# Altium schematic symbol library PiVO_shield.SCHLIB: 17 symbols
Pins are listed as number, name and electrical type; pins without a type are passive.

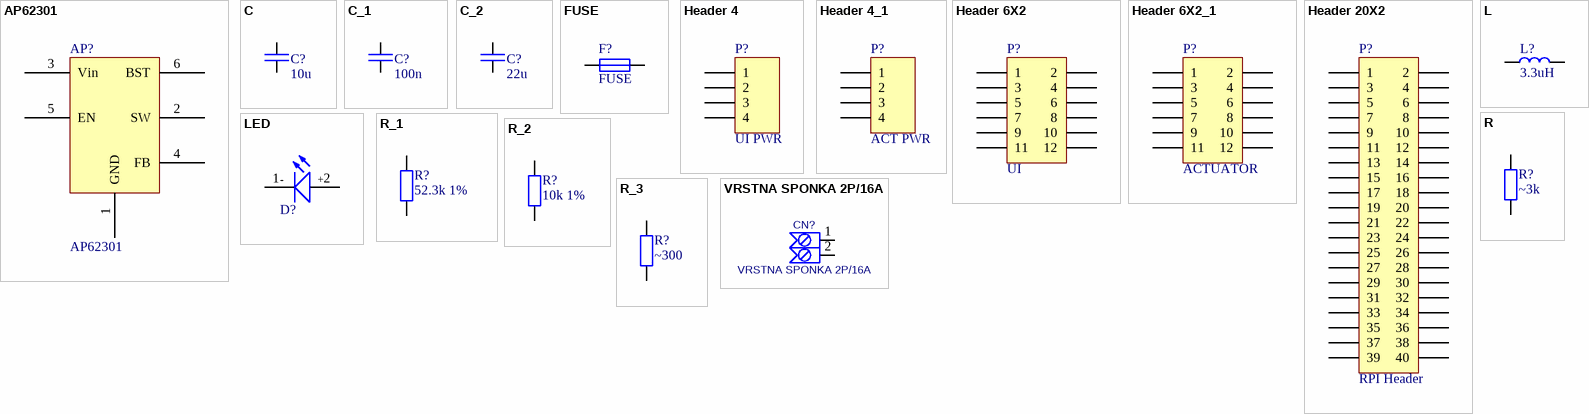
[diagram p0: symbols AP62301 to VRSTNA SPONKA 2P/16A]

## AP62301
designator AP?
footprint SOT95P280X100-6L (SOT23, 6-Leads, Body 2.90x2.80mm, Pitch 0.95mm, IPC High Density)
pins: 1 GND, 2 SW, 3 Vin, 4 FB, 5 EN, 6 BST

## C
designator C?, comment 10u
Capacitor
footprint C square R15 (600mil)
footprint C Square R5.08 (200mil)
footprint C ceramic F5mm
footprint C1608_0603I_L (Chip Capacitor, 2-Leads, Body 1.57x0.85mm, IPC High Density)
footprint C1608_0603I_M (Chip Capacitor, 2-Leads, Body 1.57x0.85mm, IPC Low Density)
footprint C1608_0603I_N (Chip Capacitor, 2-Leads, Body 1.57x0.85mm, IPC Medium Density)
footprint C1608_0603I_N-equidistant (Chip Capacitor, 2-Leads, Body 1.57x0.85mm, IPC Medium Density)
footprint C2012_0805I_L (Chip Capacitor, 2-Leads, Body 2.05x1.25mm, IPC High Density)
footprint C2012_0805I_M (Chip Capacitor, 2-Leads, Body 2.05x1.25mm, IPC Low Density)
footprint C2012_0805I_N (Chip Capacitor, 2-Leads, Body 2.05x1.25mm, IPC Medium Density)
footprint C3216_1206I_L (Chip Capacitor, 2-Leads, Body 3.20x1.60mm, IPC High Density)
footprint C3216_1206I_M (Chip Capacitor, 2-Leads, Body 3.20x1.60mm, IPC Low Density)
footprint C3216_1206I_N (Chip Capacitor, 2-Leads, Body 3.20x1.60mm, IPC Medium Density)
footprint C3225_1210I_L (Chip Capacitor, 2-Leads, Body 3.20x2.50mm, IPC High Density)
footprint C3225_1210I_M (Chip Capacitor, 2-Leads, Body 3.20x2.50mm, IPC Low Density)
footprint C3225_1210I_N (Chip Capacitor, 2-Leads, Body 3.20x2.50mm, IPC Medium Density)
pins: 1, 2

## C_1
designator C?, comment 100n
Capacitor
footprint C square R15 (600mil)
footprint C Square R5.08 (200mil)
footprint C ceramic F5mm
footprint C1608_0603I_L (Chip Capacitor, 2-Leads, Body 1.57x0.85mm, IPC High Density)
footprint C1608_0603I_M (Chip Capacitor, 2-Leads, Body 1.57x0.85mm, IPC Low Density)
footprint C1608_0603I_N (Chip Capacitor, 2-Leads, Body 1.57x0.85mm, IPC Medium Density)
footprint C1608_0603I_N-equidistant (Chip Capacitor, 2-Leads, Body 1.57x0.85mm, IPC Medium Density)
footprint C2012_0805I_L (Chip Capacitor, 2-Leads, Body 2.05x1.25mm, IPC High Density)
footprint C2012_0805I_M (Chip Capacitor, 2-Leads, Body 2.05x1.25mm, IPC Low Density)
footprint C2012_0805I_N (Chip Capacitor, 2-Leads, Body 2.05x1.25mm, IPC Medium Density)
footprint C3216_1206I_L (Chip Capacitor, 2-Leads, Body 3.20x1.60mm, IPC High Density)
footprint C3216_1206I_M (Chip Capacitor, 2-Leads, Body 3.20x1.60mm, IPC Low Density)
footprint C3216_1206I_N (Chip Capacitor, 2-Leads, Body 3.20x1.60mm, IPC Medium Density)
footprint C3225_1210I_L (Chip Capacitor, 2-Leads, Body 3.20x2.50mm, IPC High Density)
footprint C3225_1210I_M (Chip Capacitor, 2-Leads, Body 3.20x2.50mm, IPC Low Density)
footprint C3225_1210I_N (Chip Capacitor, 2-Leads, Body 3.20x2.50mm, IPC Medium Density)
pins: 1, 2

## C_2
designator C?, comment 22u
Capacitor
footprint C square R15 (600mil)
footprint C Square R5.08 (200mil)
footprint C ceramic F5mm
footprint C1608_0603I_L (Chip Capacitor, 2-Leads, Body 1.57x0.85mm, IPC High Density)
footprint C1608_0603I_M (Chip Capacitor, 2-Leads, Body 1.57x0.85mm, IPC Low Density)
footprint C1608_0603I_N (Chip Capacitor, 2-Leads, Body 1.57x0.85mm, IPC Medium Density)
footprint C1608_0603I_N-equidistant (Chip Capacitor, 2-Leads, Body 1.57x0.85mm, IPC Medium Density)
footprint C2012_0805I_L (Chip Capacitor, 2-Leads, Body 2.05x1.25mm, IPC High Density)
footprint C2012_0805I_M (Chip Capacitor, 2-Leads, Body 2.05x1.25mm, IPC Low Density)
footprint C2012_0805I_N (Chip Capacitor, 2-Leads, Body 2.05x1.25mm, IPC Medium Density)
footprint C3216_1206I_L (Chip Capacitor, 2-Leads, Body 3.20x1.60mm, IPC High Density)
footprint C3216_1206I_M (Chip Capacitor, 2-Leads, Body 3.20x1.60mm, IPC Low Density)
footprint C3216_1206I_N (Chip Capacitor, 2-Leads, Body 3.20x1.60mm, IPC Medium Density)
footprint C3225_1210I_L (Chip Capacitor, 2-Leads, Body 3.20x2.50mm, IPC High Density)
footprint C3225_1210I_M (Chip Capacitor, 2-Leads, Body 3.20x2.50mm, IPC Low Density)
footprint C3225_1210I_N (Chip Capacitor, 2-Leads, Body 3.20x2.50mm, IPC Medium Density)
pins: 1, 2

## FUSE
designator F?
footprint R1005_0402i_L (Resistor, Chip; 1.00 mm L X 0.50 mm W X 0.40 mm H body)
footprint R1005_0402i_M (Resistor, Chip; 1.00 mm L X 0.50 mm W X 0.40 mm H body)
footprint R1005_0402I_N (Resistor, Chip; 1.00 mm L X 0.50 mm W X 0.40 mm H body)
footprint R1608_0603I_L (Chip Resistor, 2-Leads, Body 1.57x0.85mm, IPC High Density)
footprint R1608_0603I_M (Chip Resistor, 2-Leads, Body 1.57x0.85mm, IPC Low Density)
footprint R1608_0603I_N (Chip Resistor, 2-Leads, Body 1.57x0.85mm, IPC Medium Density)
footprint R1608_0603I_N-equidistant (Chip Resistor, 2-Leads, Body 1.57x0.85mm, IPC Medium Density)
footprint R2012_0805I_L (Chip Resistor, 2-Leads, Body 2.05x1.25mm, IPC High Density)
footprint R2012_0805I_M (Chip Resistor, 2-Leads, Body 2.05x1.25mm, IPC Low Density)
footprint R2012_0805I_N (Chip Resistor, 2-Leads, Body 2.05x1.25mm, IPC Medium Density)
footprint R3216_1206I_L (Chip Resistor, 2-Leads, Body 3.15x1.60mm, IPC High Density)
footprint R3216_1206I_M (Chip Resistor, 2-Leads, Body 3.15x1.60mm, IPC Low Density)
footprint R3216_1206I_N (Chip Resistor, 2-Leads, Body 3.15x1.60mm, IPC Medium Density)
footprint R6432_2512I_L (Resistor, Chip; 6.40 mm L X 3.20 mm W X 0.75 mm H body)
footprint R6432_2512I_M (Resistor, Chip; 6.40 mm L X 3.20 mm W X 0.75 mm H body)
footprint R6432_2512I_N (Resistor, Chip; 6.40 mm L X 3.20 mm W X 0.75 mm H body)
pins: 1, 2

## Header 4
designator P?, comment UI PWR
Header, 4-Pin; LatestRevisionDate: 17-Jul-2002; LatestRevisionNote: Re-released for DXP Platform.; Publisher: Altium Limited
footprint HDR1X4 (Connector; Header; 4 Position)
signal-integrity model Connector
pins: 1, 2, 3, 4

## Header 4_1
designator P?, comment ACT PWR
Header, 4-Pin; LatestRevisionDate: 17-Jul-2002; LatestRevisionNote: Re-released for DXP Platform.; Publisher: Altium Limited
footprint HDR1X4 (Connector; Header; 4 Position)
signal-integrity model Connector
pins: 1, 2, 3, 4

## Header 6X2
designator P?, comment UI
Header, 6-Pin, Dual row; LatestRevisionDate: 17-Jul-2002; LatestRevisionNote: Re-released for DXP Platform.; Publisher: Altium Limited
footprint HDR2X6 (Connector; Header; 6x2 Position)
signal-integrity model Connector
footprint 1.27mm headet tht
pins: 1, 2, 3, 4, 5, 6, 7, 8, 9, 10, 11, 12

## Header 6X2_1
designator P?, comment ACTUATOR
Header, 6-Pin, Dual row; LatestRevisionDate: 17-Jul-2002; LatestRevisionNote: Re-released for DXP Platform.; Publisher: Altium Limited
footprint HDR2X6 (Connector; Header; 6x2 Position)
signal-integrity model Connector
footprint 1.27mm headet tht
pins: 1, 2, 3, 4, 5, 6, 7, 8, 9, 10, 11, 12

## Header 20X2
designator P?, comment RPI Header
Header, 20-Pin, Dual row; LatestRevisionDate: 17-Jul-2002; LatestRevisionNote: Re-released for DXP Platform.; Publisher: Altium Limited
footprint HDR2X20 (Connector; Header; 20x2 Position)
signal-integrity model Connector
pins: 1, 2, 3, 4, 5, 6, 7, 8, 9, 10, 11, 12, 13, 14, 15, 16, 17, 18, 19, 20, 21, 22, 23, 24, 25, 26, 27, 28, 29, 30, 31, 32, 33, 34, 35, 36, 37, 38, 39, 40

## L
designator L?, comment 3.3uH
L
footprint R400
footprint L_10.4X10.4
footprint L_Radial_5.0_1.0_3D_FI11.5_H14
footprint L_Radial_7.5_1.2_2D_FI16
footprint L_RADIAL_5.0_8.5x11.0
footprint L_RADIAL_7.2_13.7x15.9
footprint MSS1278 (Precision Wire Wound Inductor, 2-Leads, Body 12,15x12,15mm, IPC Medium Density)
footprint MSS1278-enlarged pads (Precision Wire Wound Inductor, 2-Leads, Body 12,15x12,15mm, IPC NONE - Medium->Enlarged pads)
footprint L-Coilcraft-DR0608
footprint L Murata 1400 F23.8mm 27x14
footprint L100100X48_N (Precision Wire Wound Inductor, 2-Leads, Body 10.00x10.00mm, IPC Medium Density)
footprint L4040_1616I_L (Inductor, Chip; 4.00 mm L X 4.00 mm W X 2.50 mm H body)
footprint L4040_1616I_M (Inductor, Chip; 4.00 mm L X 4.00 mm W X 2.50 mm H body)
footprint L4040_1616I_N (Inductor, Chip; 4.00 mm L X 4.00 mm W X 2.50 mm H body)
footprint L5050_2020I (Precision Wire Wound Inductor, 2-Leads, Body 5,00x5,00mm, IPC Medium Density)
footprint L6060_2424I_L (Inductor, Chip; 6.00 mm L X 6.00 mm W X 2.80 mm H body)
footprint L6060_2424I_M (Inductor, Chip; 6.00 mm L X 6.00 mm W X 2.80 mm H body)
footprint L6060_2424I_N (Inductor, Chip; 6.00 mm L X 6.00 mm W X 2.80 mm H body)
footprint L7070_2523I
footprint L8080X40_N (Precision Wire Wound Inductor, 2-Leads, Body 8.00x8.00x4.00mm, IPC Medium Density)
footprint L3030X10N (Precision Wire Wound Inductor, 2-Leads, Body 3.00x3.00mm, IPC Medium Density)
footprint R1608_0603I_L (Chip Resistor, 2-Leads, Body 1.57x0.85mm, IPC High Density)
footprint R1608_0603I_M (Chip Resistor, 2-Leads, Body 1.57x0.85mm, IPC Low Density)
footprint R1608_0603I_N (Chip Resistor, 2-Leads, Body 1.57x0.85mm, IPC Medium Density)
footprint R1608_0603I_N-equidistant (Chip Resistor, 2-Leads, Body 1.57x0.85mm, IPC Medium Density)
footprint R2012_0805I_L (Chip Resistor, 2-Leads, Body 2.05x1.25mm, IPC High Density)
footprint R2012_0805I_M (Chip Resistor, 2-Leads, Body 2.05x1.25mm, IPC Low Density)
footprint R2012_0805I_N (Chip Resistor, 2-Leads, Body 2.05x1.25mm, IPC Medium Density)
footprint R3216_1206I_L (Chip Resistor, 2-Leads, Body 3.15x1.60mm, IPC High Density)
footprint R3216_1206I_M (Chip Resistor, 2-Leads, Body 3.15x1.60mm, IPC Low Density)
footprint R3216_1206I_N (Chip Resistor, 2-Leads, Body 3.15x1.60mm, IPC Medium Density)
footprint R6432_2512I_L (Resistor, Chip; 6.40 mm L X 3.20 mm W X 0.75 mm H body)
footprint R6432_2512I_M (Resistor, Chip; 6.40 mm L X 3.20 mm W X 0.75 mm H body)
footprint R6432_2512I_N (Resistor, Chip; 6.40 mm L X 3.20 mm W X 0.75 mm H body)
footprint INDUCTOR
footprint INDUCTOR_2
pins: 1, 2

## LED
designator D?  (value not drawn)
footprint LED2012_0805I_N (SMD LED, 2-Leads, Body 2.05x1.25mm, IPC Medium Density)
footprint LED1608_0603I_L (SMD LED, 2-Leads, Body 1.57x0.85mm, IPC High Density)
footprint LED1608_0603I_M (SMD LED, 2-Leads, Body 1.57x0.85mm, IPC Low Density)
footprint LED1608_0603I_N (SMD LED, 2-Leads, Body 1.57x0.85mm, IPC Medium Density)
footprint LED1608_0603I_N-equidistant (SMD LED, 2-Leads, Body 1.57x0.85mm, IPC Medium Density)
footprint LED2012_0805I_L (SMD LED, 2-Leads, Body 2.05x1.25mm, IPC High Density)
footprint LED2012_0805I_M (SMD LED, 2-Leads, Body 2.05x1.25mm, IPC Low Density)
footprint LED3216_1206I_L (SMD LED, 2-Leads, Body 3.15x1.60mm, IPC High Density)
footprint LED3216_1206I_M (SMD LED, 2-Leads, Body 3.15x1.60mm, IPC Low Density)
footprint LED3216_1206I_N (SMD LED, 2-Leads, Body 3.15x1.60mm, IPC Medium Density)
pins: 1 -, 2 +
7 alternate drawings of the same symbol

## R
designator R?, comment ~3k
R
footprint R400
footprint R300
footprint R500
footprint LDR
footprint R_Ax_L1550_D500 (Resistor, Axial; 20.60 mm C X 0.80 mm W 15.50 mm L X 5.00 mm Dia body)
footprint R2012_0805I_N (Chip Resistor, 2-Leads, Body 2.05x1.25mm, IPC Medium Density)
footprint R1005_0402i_L (Resistor, Chip; 1.00 mm L X 0.50 mm W X 0.40 mm H body)
footprint R1005_0402i_M (Resistor, Chip; 1.00 mm L X 0.50 mm W X 0.40 mm H body)
footprint R1608_0603I_L (Chip Resistor, 2-Leads, Body 1.57x0.85mm, IPC High Density)
footprint R1608_0603I_M (Chip Resistor, 2-Leads, Body 1.57x0.85mm, IPC Low Density)
footprint R1608_0603I_N (Chip Resistor, 2-Leads, Body 1.57x0.85mm, IPC Medium Density)
footprint R1608_0603I_N-equidistant (Chip Resistor, 2-Leads, Body 1.57x0.85mm, IPC Medium Density)
footprint R1005_0402I_N (Resistor, Chip; 1.00 mm L X 0.50 mm W X 0.40 mm H body)
footprint R2012_0805I_L (Chip Resistor, 2-Leads, Body 2.05x1.25mm, IPC High Density)
footprint R2012_0805I_M (Chip Resistor, 2-Leads, Body 2.05x1.25mm, IPC Low Density)
footprint R3216_1206I_L (Chip Resistor, 2-Leads, Body 3.15x1.60mm, IPC High Density)
footprint R3216_1206I_N (Chip Resistor, 2-Leads, Body 3.15x1.60mm, IPC Medium Density)
footprint R6432_2512I_L (Resistor, Chip; 6.40 mm L X 3.20 mm W X 0.75 mm H body)
footprint R3216_1206I_M (Chip Resistor, 2-Leads, Body 3.15x1.60mm, IPC Low Density)
footprint R6432_2512I_N (Resistor, Chip; 6.40 mm L X 3.20 mm W X 0.75 mm H body)
footprint R6432_2512I_M (Resistor, Chip; 6.40 mm L X 3.20 mm W X 0.75 mm H body)
pins: 1, 2

## R_1
designator R?, comment 52.3k 1%
R
footprint R400
footprint R300
footprint R500
footprint LDR
footprint R_Ax_L1550_D500 (Resistor, Axial; 20.60 mm C X 0.80 mm W 15.50 mm L X 5.00 mm Dia body)
footprint R2012_0805I_N (Chip Resistor, 2-Leads, Body 2.05x1.25mm, IPC Medium Density)
footprint R1005_0402i_L (Resistor, Chip; 1.00 mm L X 0.50 mm W X 0.40 mm H body)
footprint R1005_0402i_M (Resistor, Chip; 1.00 mm L X 0.50 mm W X 0.40 mm H body)
footprint R1608_0603I_L (Chip Resistor, 2-Leads, Body 1.57x0.85mm, IPC High Density)
footprint R1608_0603I_M (Chip Resistor, 2-Leads, Body 1.57x0.85mm, IPC Low Density)
footprint R1608_0603I_N (Chip Resistor, 2-Leads, Body 1.57x0.85mm, IPC Medium Density)
footprint R1608_0603I_N-equidistant (Chip Resistor, 2-Leads, Body 1.57x0.85mm, IPC Medium Density)
footprint R1005_0402I_N (Resistor, Chip; 1.00 mm L X 0.50 mm W X 0.40 mm H body)
footprint R2012_0805I_L (Chip Resistor, 2-Leads, Body 2.05x1.25mm, IPC High Density)
footprint R2012_0805I_M (Chip Resistor, 2-Leads, Body 2.05x1.25mm, IPC Low Density)
footprint R3216_1206I_L (Chip Resistor, 2-Leads, Body 3.15x1.60mm, IPC High Density)
footprint R3216_1206I_N (Chip Resistor, 2-Leads, Body 3.15x1.60mm, IPC Medium Density)
footprint R6432_2512I_L (Resistor, Chip; 6.40 mm L X 3.20 mm W X 0.75 mm H body)
footprint R3216_1206I_M (Chip Resistor, 2-Leads, Body 3.15x1.60mm, IPC Low Density)
footprint R6432_2512I_N (Resistor, Chip; 6.40 mm L X 3.20 mm W X 0.75 mm H body)
footprint R6432_2512I_M (Resistor, Chip; 6.40 mm L X 3.20 mm W X 0.75 mm H body)
pins: 1, 2

## R_2
designator R?, comment 10k 1%
R
footprint R400
footprint R300
footprint R500
footprint LDR
footprint R_Ax_L1550_D500 (Resistor, Axial; 20.60 mm C X 0.80 mm W 15.50 mm L X 5.00 mm Dia body)
footprint R2012_0805I_N (Chip Resistor, 2-Leads, Body 2.05x1.25mm, IPC Medium Density)
footprint R1005_0402i_L (Resistor, Chip; 1.00 mm L X 0.50 mm W X 0.40 mm H body)
footprint R1005_0402i_M (Resistor, Chip; 1.00 mm L X 0.50 mm W X 0.40 mm H body)
footprint R1608_0603I_L (Chip Resistor, 2-Leads, Body 1.57x0.85mm, IPC High Density)
footprint R1608_0603I_M (Chip Resistor, 2-Leads, Body 1.57x0.85mm, IPC Low Density)
footprint R1608_0603I_N (Chip Resistor, 2-Leads, Body 1.57x0.85mm, IPC Medium Density)
footprint R1608_0603I_N-equidistant (Chip Resistor, 2-Leads, Body 1.57x0.85mm, IPC Medium Density)
footprint R1005_0402I_N (Resistor, Chip; 1.00 mm L X 0.50 mm W X 0.40 mm H body)
footprint R2012_0805I_L (Chip Resistor, 2-Leads, Body 2.05x1.25mm, IPC High Density)
footprint R2012_0805I_M (Chip Resistor, 2-Leads, Body 2.05x1.25mm, IPC Low Density)
footprint R3216_1206I_L (Chip Resistor, 2-Leads, Body 3.15x1.60mm, IPC High Density)
footprint R3216_1206I_N (Chip Resistor, 2-Leads, Body 3.15x1.60mm, IPC Medium Density)
footprint R6432_2512I_L (Resistor, Chip; 6.40 mm L X 3.20 mm W X 0.75 mm H body)
footprint R3216_1206I_M (Chip Resistor, 2-Leads, Body 3.15x1.60mm, IPC Low Density)
footprint R6432_2512I_N (Resistor, Chip; 6.40 mm L X 3.20 mm W X 0.75 mm H body)
footprint R6432_2512I_M (Resistor, Chip; 6.40 mm L X 3.20 mm W X 0.75 mm H body)
pins: 1, 2

## R_3
designator R?, comment ~300
R
footprint R400
footprint R300
footprint R500
footprint LDR
footprint R_Ax_L1550_D500 (Resistor, Axial; 20.60 mm C X 0.80 mm W 15.50 mm L X 5.00 mm Dia body)
footprint R2012_0805I_N (Chip Resistor, 2-Leads, Body 2.05x1.25mm, IPC Medium Density)
footprint R1005_0402i_L (Resistor, Chip; 1.00 mm L X 0.50 mm W X 0.40 mm H body)
footprint R1005_0402i_M (Resistor, Chip; 1.00 mm L X 0.50 mm W X 0.40 mm H body)
footprint R1608_0603I_L (Chip Resistor, 2-Leads, Body 1.57x0.85mm, IPC High Density)
footprint R1608_0603I_M (Chip Resistor, 2-Leads, Body 1.57x0.85mm, IPC Low Density)
footprint R1608_0603I_N (Chip Resistor, 2-Leads, Body 1.57x0.85mm, IPC Medium Density)
footprint R1608_0603I_N-equidistant (Chip Resistor, 2-Leads, Body 1.57x0.85mm, IPC Medium Density)
footprint R1005_0402I_N (Resistor, Chip; 1.00 mm L X 0.50 mm W X 0.40 mm H body)
footprint R2012_0805I_L (Chip Resistor, 2-Leads, Body 2.05x1.25mm, IPC High Density)
footprint R2012_0805I_M (Chip Resistor, 2-Leads, Body 2.05x1.25mm, IPC Low Density)
footprint R3216_1206I_L (Chip Resistor, 2-Leads, Body 3.15x1.60mm, IPC High Density)
footprint R3216_1206I_N (Chip Resistor, 2-Leads, Body 3.15x1.60mm, IPC Medium Density)
footprint R6432_2512I_L (Resistor, Chip; 6.40 mm L X 3.20 mm W X 0.75 mm H body)
footprint R3216_1206I_M (Chip Resistor, 2-Leads, Body 3.15x1.60mm, IPC Low Density)
footprint R6432_2512I_N (Resistor, Chip; 6.40 mm L X 3.20 mm W X 0.75 mm H body)
footprint R6432_2512I_M (Resistor, Chip; 6.40 mm L X 3.20 mm W X 0.75 mm H body)
pins: 1, 2

## VRSTNA SPONKA 2P/16A
designator CN?
Value: *
footprint VRSTNA SPONKA 2P/16A
pins: 1, 2